# Altium footprint library myPcbLib1.PcbLib: 133 footprints (part 7 of 9)
Each footprint in its own frame and in the unit in brackets; x right, y up, seen from the top. Pads: shape width x height; smd on the part's side, far side on the other; paste and mask are expansions set on the pad; w line width, h text height; cw(c..) or ccw(c..) is an arc to the next point about the centre after c.
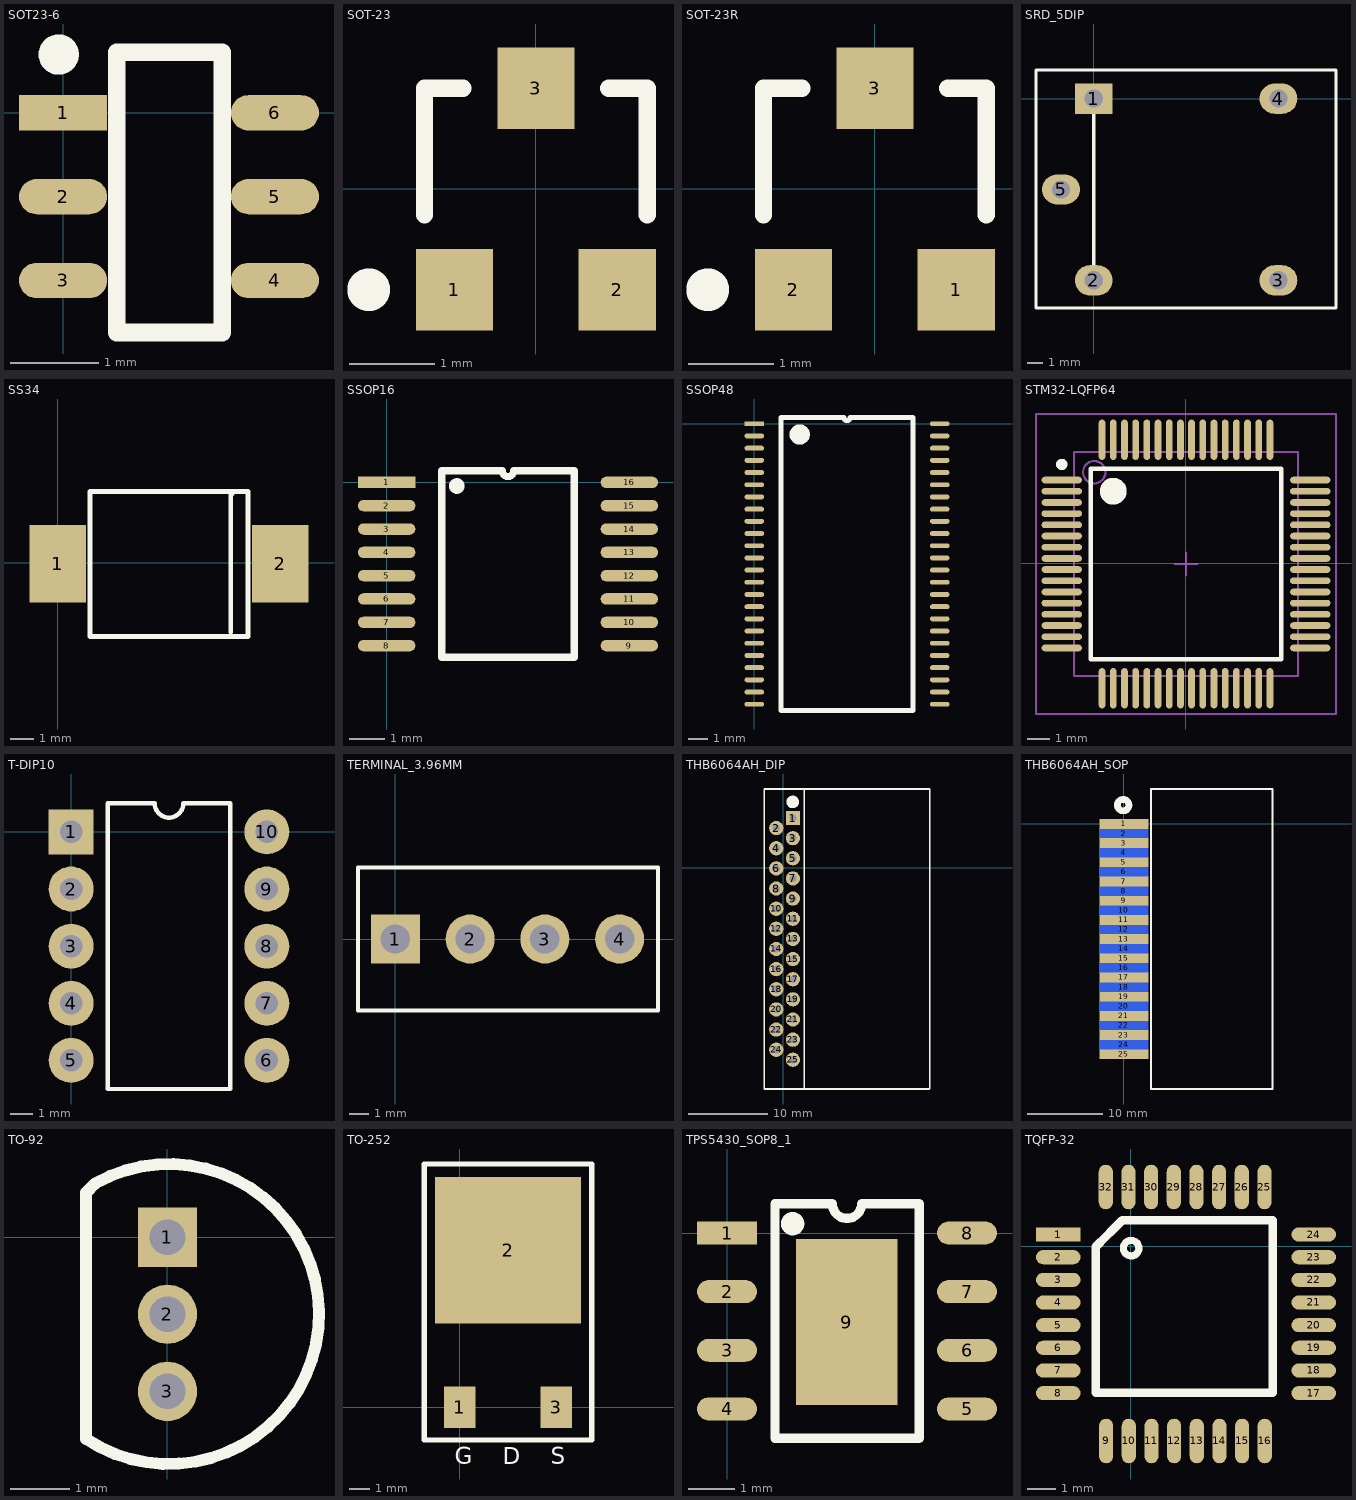
[diagram p6: the footprints below, top view; thin cyan lines are the x and y axes]

## SOT23-6 [mm]
pads (6):
  rect 1x0.4 smd: 1(0,0)
  oval 1x0.4 smd: 2(0,-0.95) 3(0,-1.9) 4(2.4,-1.9) 5(2.4,-0.95) 6(2.4,0)
Top Overlay:
  circle w0.254: c-0.051,0.66 r0.102
  lines w0.2: 0.61,-2.489 0.61,0.686 1.803,0.686 1.803,-2.489 0.61,-2.489

## SOT-23 [mm]
pads (3):
  rect 0.9x0.95 smd: 1(-0.95,-1.175) 2(0.95,-1.175) 3(0,1.175)
Top Overlay:
  circle w0.25: c-1.95,-1.175 r0.125
  lines w0.2: -1.3,-0.3 -1.3,1.175 -0.85,1.175 ; 0.85,1.175 1.3,1.175 1.3,-0.3

## SOT-23R [mm]
pads (3):
  rect 0.9x0.95 smd: 1(0.95,-1.175) 2(-0.95,-1.175) 3(0,1.175)
Top Overlay:
  circle w0.25: c-1.95,-1.175 r0.125
  lines w0.2: -1.3,-0.3 -1.3,1.175 -0.85,1.175 ; 0.85,1.175 1.3,1.175 1.3,-0.3

## SRD_5DIP [mm]
pads (5):
  rect 2.5x2 hole 1.2: 1(0,0)
  oval 2.5x2 hole 1.2: 2(0,-12) 3(12.2,-12) 4(12.2,0) 5(-2.159,-6)
Top Overlay:
  lines w0.2: -3.81,-13.843 -3.81,1.905 16.002,1.905 16.002,-13.843 -3.81,-13.843
  lines w0.254: 0,-12 0,0

## SS34 [mm]
pads (2):
  rect 2.4x3.3 smd: 1(0,-0.051) 2(9.474,-0.051)
Top Overlay:
  lines w0.2: 7.366,-2.972 7.366,2.921 7.417,2.921 ; 1.372,-3.15 8.103,-3.15 8.103,3.023 1.372,3.023 1.372,-3.15

## SSOP16 [mm]
pads (16):
  rect 1.6x0.32 smd: 1(0,0)
  oval 1.6x0.32 smd: 2(0,-0.65) 3(0,-1.3) 4(0,-1.95) 5(0,-2.6) 6(0,-3.25) 7(0,-3.9) 8(0,-4.55) 9(6.76,-4.55) 10(6.76,-3.9) 11(6.76,-3.25) 12(6.76,-2.6) 13(6.76,-1.95) 14(6.76,-1.3) 15(6.76,-0.65) 16(6.76,0)
Top Overlay:
  circle w0.25: c1.956,-0.102 r0.092
  lines w0.2: 1.535,-4.875 1.535,0.325 3.217,0.325 ccw(c3.38,0.325) 3.542,0.325 5.225,0.325 5.225,-4.875 1.535,-4.875

## SSOP48 [mil]
pads (48):
  rect 40x10 smd: 1(0,0)
  oval 40x10 smd: 2(0,-25) 3(0,-50) 4(0,-75) 5(0,-100) 6(0,-125) 7(0,-150) 8(0,-175) 9(0,-200) 10(0,-225) 11(0,-250) 12(0,-275) 13(0,-300) 14(0,-325) 15(0,-350) 16(0,-375) 17(0,-400) 18(0,-425) 19(0,-450) 20(0,-475) 21(0,-500) 22(0,-525) 23(0,-550) 24(0,-575) 25(380,-575) 26(380,-550) 27(380,-525) 28(380,-500) 29(380,-475) 30(380,-450) 31(380,-425) 32(380,-400) 33(380,-375) 34(380,-350) 35(380,-325) 36(380,-300) 37(380,-275) 38(380,-250) 39(380,-225) 40(380,-200) 41(380,-175) 42(380,-150) 43(380,-125) 44(380,-100) 45(380,-75) 46(380,-50) 47(380,-25) 48(380,0)
Top Overlay:
  circle w23.62: c93,-22 r8.94
  lines w10: 55,-587.5 325,-587.5 325,12.5 196.25,12.5 cw(c190,12.5) 183.75,12.5 55,12.5 55,-587.5

## STM32-LQFP64 [mm] "Thin QFP, 64-Leads, Body 10x10mm, Pitch 0.5mm, IPC Medium Density"
pads (64):
  oval 1.8x0.3 smd: 1(-5.537,3.708) 2(-5.537,3.208) 3(-5.537,2.708) 4(-5.537,2.208) 5(-5.537,1.708) 6(-5.537,1.208) 7(-5.537,0.708) 8(-5.537,0.208) 9(-5.537,-0.292) 10(-5.537,-0.792) 11(-5.537,-1.292) 12(-5.537,-1.792) 13(-5.537,-2.292) 14(-5.537,-2.792) 15(-5.537,-3.292) 16(-5.537,-3.792) 33(5.563,-3.792) 34(5.563,-3.292) 35(5.563,-2.792) 36(5.563,-2.292) 37(5.563,-1.792) 38(5.563,-1.292) 39(5.563,-0.792) 40(5.563,-0.292) 41(5.563,0.208) 42(5.563,0.708) 43(5.563,1.208) 44(5.563,1.708) 45(5.563,2.208) 46(5.563,2.708) 47(5.563,3.208) 48(5.563,3.708)
  oval 0.3x1.8 smd: 17(-3.737,-5.592) 18(-3.237,-5.592) 19(-2.737,-5.592) 20(-2.237,-5.592) 21(-1.737,-5.592) 22(-1.237,-5.592) 23(-0.737,-5.592) 24(-0.237,-5.592) 25(0.263,-5.592) 26(0.763,-5.592) 27(1.263,-5.592) 28(1.763,-5.592) 29(2.263,-5.592) 30(2.763,-5.592) 31(3.263,-5.592) 32(3.763,-5.592) 49(3.763,5.508) 50(3.263,5.508) 51(2.763,5.508) 52(2.263,5.508) 53(1.763,5.508) 54(1.263,5.508) 55(0.763,5.508) 56(0.263,5.508) 57(-0.237,5.508) 58(-0.737,5.508) 59(-1.237,5.508) 60(-1.737,5.508) 61(-2.237,5.508) 62(-2.737,5.508) 63(-3.237,5.508) 64(-3.737,5.508)
Top Overlay:
  circle w0.25: c-5.537,4.408 r0.125
  circle w0.6: c-3.237,3.208 r0.3
  lines w0.2: -4.237,-4.292 -4.237,4.208 4.263,4.208 4.263,-4.292 -4.237,-4.292
Mechanical 13:
  circle w0.1: c-4.087,4.058 r0.5
  lines w0.1: -4.987,-5.042 -4.987,4.958 5.013,4.958 5.013,-5.042 -4.987,-5.042
Mechanical 15:
  lines w0.1: -0.487,-0.042 0.513,-0.042 ; 0.013,-0.542 0.013,0.458 ; -6.687,-6.742 -6.687,6.658 6.713,6.658 6.713,-6.742 -6.687,-6.742
3D body: height 1.6, standoff 0, extent -4.987,-5.042 5.013,4.958

## T-DIP10 [mm]
pads (10):
  rect 2x2 hole 1: 1(0,0)
  round 2 hole 1: 2(0,-2.54) 3(0,-5.08) 4(0,-7.62) 5(0,-10.16) 6(8.7,-10.16) 7(8.7,-7.62) 8(8.7,-5.08) 9(8.7,-2.54) 10(8.7,0)
Top Overlay:
  lines w0.2: 1.635,-11.43 1.635,1.27 3.715,1.27 ccw(c4.35,1.27) 4.985,1.27 7.065,1.27 7.065,-11.43 1.635,-11.43

## TERMINAL_3.96MM [mm]
pads (4):
  rect 2.5x2.5 hole 1.5: 1(0,0)
  round 2.5 hole 1.5: 2(3.81,0) 3(7.62,0) 4(11.43,0)
Top Overlay:
  lines w0.2: -1.91,-3.65 -1.91,3.65 13.39,3.65 13.39,-3.65 -1.91,-3.65

## THB6064AH_DIP [mm]
pads (25):
  rect 1.8x1.8 hole 0.9: 1(1.219,6.274)
  round 1.8 hole 0.9: 2(-0.881,5.004) 3(1.219,3.734) 4(-0.881,2.464) 5(1.219,1.194) 6(-0.881,-0.076) 7(1.219,-1.346) 8(-0.881,-2.616) 9(1.219,-3.886) 10(-0.881,-5.156) 11(1.219,-6.426) 12(-0.881,-7.696) 13(1.219,-8.966) 14(-0.881,-10.236) 15(1.219,-11.506) 16(-0.881,-12.776) 17(1.219,-14.046) 18(-0.881,-15.316) 19(1.219,-16.586) 20(-0.881,-17.856) 21(1.219,-19.126) 22(-0.881,-20.396) 23(1.219,-21.666) 24(-0.881,-22.936) 25(1.219,-24.206)
Top Overlay:
  circle w0.762: c1.194,8.306 r0.41
  lines w0.2: 18.44,-27.864 18.415,-27.889 17.907,-27.889 2.667,-27.889 ; 18.466,-27.864 18.466,9.931 2.667,9.931 ; 2.667,-27.889 2.667,9.931 ; 2.667,-27.889 -2.388,-27.889 -2.388,9.931 2.667,9.931

## THB6064AH_SOP [mm]
pads (25):
  rect 6.5x1.3 smd: 1(0,0) 3(0,-2.54) 5(0,-5.08) 7(0,-7.62) 9(0,-10.16) 11(0,-12.7) 13(0,-15.24) 15(0,-17.78) 17(0,-20.32) 19(0,-22.86) 21(0,-25.4) 23(0,-27.94) 25(0,-30.48)
  rect 6.5x1.3 smd far side: 2(0,-1.27) 4(0,-3.81) 6(0,-6.35) 8(0,-8.89) 10(0,-11.43) 12(0,-13.97) 14(0,-16.51) 16(0,-19.05) 18(0,-21.59) 20(0,-24.13) 22(0,-26.67) 24(0,-29.21)
Top Overlay:
  circle w0.889: c-0.102,2.489 r0.762
  lines w0.254: 3.581,-35.077 3.581,4.623 19.685,4.623 19.685,-35.077 3.581,-35.077

## TO-92 [mm]
pads (3):
  rect 1x1 hole 0.6: 1(0,0)
  round 1 hole 0.6: 2(0,-1.3) 3(0,-2.6)
Top Overlay:
  lines w0.2: -1.372,-3.404 ccw(c0.025,-1.295) -1.216,0.908
  lines w0.203: -1.372,-3.404 -1.372,0.752 -1.216,0.908

## TO-252 [mm]
pads (3):
  rect 1.5x2 smd: 1(0,0) 3(4.6,0)
  rect 7x7 smd: 2(2.3,7.5)
Top Overlay:
  lines w0.254: -1.7,-1.572 -1.7,11.62 6.3,11.62 6.3,-1.572 -1.7,-1.572
  text "G" at -0.24,-2.715 h0.8
  text "D" at 2.046,-2.715 h0.8
  text "S" at 4.332,-2.715 h0.8

## TPS5430_SOP8_1 [mm]
pads (9):
  rect 1.3x0.5 smd: 1(0,0)
  oval 1.3x0.5 smd: 2(0,-1.27) 3(0,-2.54) 4(0,-3.81) 5(5.2,-3.81) 6(5.2,-2.54) 7(5.2,-1.27) 8(5.2,0)
  rect 2.2x3.6 smd: 9(2.591,-1.93)
Top Overlay:
  circle w0.25: c1.422,0.203 r0.127
  lines w0.2: 1.041,-4.445 4.166,-4.445 4.166,0.635 2.917,0.635 cw(c2.6,0.635) 2.282,0.635 1.041,0.635 1.041,-4.445

## TQFP-32 [mil]
pads (32):
  rect 62x19.68 smd: 1(-101,16)
  oval 62x19.68 smd: 2(-101,-15.5) 3(-101,-46.99) 4(-101,-78.49) 5(-101,-109.98) 6(-101,-141.48) 7(-101,-172.98) 8(-101,-204.47) 17(254,-204.47) 18(254,-172.98) 19(254,-141.48) 20(254,-109.98) 21(254,-78.49) 22(254,-46.99) 23(254,-15.5) 24(254,16)
  oval 19.68x62 smd: 9(-34.49,-271) 10(-2.99,-271) 11(28.5,-271) 12(60,-271) 13(91.5,-271) 14(122.99,-271) 15(154.49,-271) 16(185.98,-271) 25(185.52,82.05) 26(154.02,82.05) 27(122.53,82.05) 28(91.03,82.05) 29(59.53,82.05) 30(28.04,82.05) 31(-3.46,82.05) 32(-34.95,82.05)
Top Overlay:
  circle w10: c0.23,-3 r10.77
  lines w12: -48,0 -12,36 197,36 197,-204 -49,-204 -49,-1 -42.01,5.99